# EAGLE library part J-LCD (library machine_science)
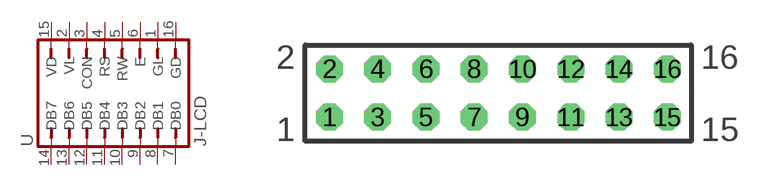
[diagram p14: symbol with the pads of J-LCD; footprint J-LCD]

Designator prefix -

## J-LCD  [J-LCD]
1  GL  pas
2  VL  pas
3  CON  pas
4  RS  pas
5  RW  pas
6  E  pas
7  DB0  pas
8  DB1  pas
9  DB2  pas
10  DB3  pas
11  DB4  pas
12  DB5  pas
13  DB6  pas
14  DB7  pas
15  VD  pas
16  GD  pas

## Footprint J-LCD (pad centres in mm)
drill 0.914 octagon: 1 -8.89,-1.27; 2 -8.89,1.27; 3 -6.35,-1.27; 4 -6.35,1.27; 5 -3.81,-1.27; 6 -3.81,1.27; 7 -1.27,-1.27; 8 -1.27,1.27; 9 1.27,-1.27; 10 1.27,1.27; 11 3.81,-1.27; 12 3.81,1.27; 13 6.35,-1.27; 14 6.35,1.27; 15 8.89,-1.27; 16 8.89,1.27